# EAGLE library part 74*2G79 (library 74xx-little-us)
Single Positive-Edge-Triggered D-Type Flip-Flop Source: http://focus.ti.com/lit/ds/symlink/sn74lvc2g79.pdf
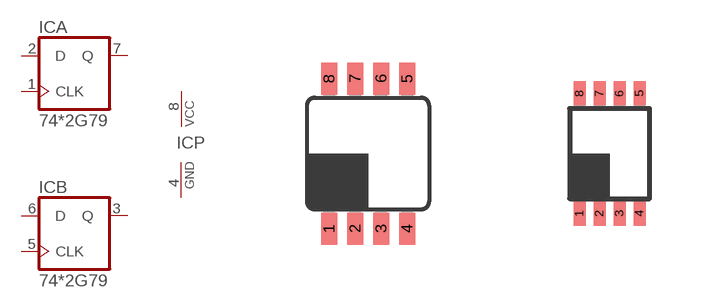
[diagram p2: symbol with the pads of DCT_R-PDSO-G8; footprints DCT_R-PDSO-G8, DCU_R-PDSO-G8]

Designator prefix IC; gates A=7479 P=PWRN B=7479

## 742G79DCT  [DCT_R-PDSO-G8]
1  A:CLK  in
2  A:D  in
3  B:Q  out
4  P:GND  pwr
5  B:CLK  in
6  B:D  in
7  A:Q  out
8  P:VCC  pwr

## 742G79DCU  [DCU_R-PDSO-G8]
Pads as for DCT_R-PDSO-G8

## 742G79YEP  [YEP_R-XBGA-N8]
A1  A:CLK  in
A2  P:VCC  pwr
B1  A:D  in
B2  A:Q  out
C1  B:Q  out
C2  B:D  in
D1  P:GND  pwr
D2  B:CLK  in

## Footprint DCT_R-PDSO-G8 (pad centres in mm)
DCT (R-PDSO-G8) PLSTIG SMALL-OUTLINE PACKAGE Source: http://focus.ti.com/lit/ds/symlink/sn74lvc2g53.pdf
smd 0.4 x 0.8: 1 -0.975,-1.875; 2 -0.325,-1.875; 3 0.325,-1.875; 4 0.975,-1.875; 5 0.975,1.875; 6 0.325,1.875; 7 -0.325,1.875; 8 -0.975,1.875

## Footprint DCU_R-PDSO-G8 (pad centres in mm)
DCU (R-PDSO-G8) PLASTIC SMALL-OUTLINE PACKAGE (DIE DOWN) Source: http://focus.ti.com/lit/ds/symlink/sn74lvc2g53.pdf
smd 0.3 x 0.6: 1 -0.75,-1.5; 2 -0.25,-1.5; 3 0.25,-1.5; 4 0.75,-1.5; 5 0.75,1.5; 6 0.25,1.5; 7 -0.25,1.5; 8 -0.75,1.5

## Footprint YEP_R-XBGA-N8 (pad centres in mm)
YEP (R-XBGA-N8) DIE-SIZE BALL GRID ARRAY Source: http://focus.ti.com/lit/ds/symlink/sn74lvc2g53.pdf
smd 0.3 x 0.3: A1 -0.75,-0.25; A2 -0.75,0.25; B1 -0.25,-0.25; B2 -0.25,0.25; C1 0.25,-0.25; C2 0.25,0.25; D1 0.75,-0.25; D2 0.75,0.25